# EAGLE library part CONN_1X06 (library GPLIB_CONN)
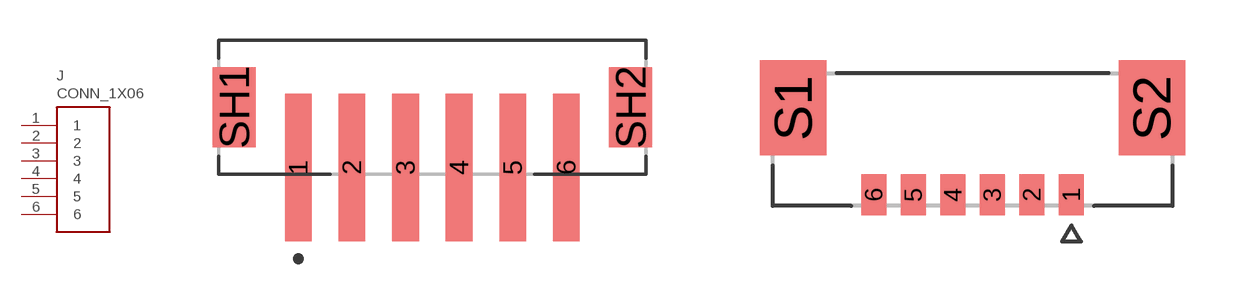
[diagram p28: symbol with the pads of CONN_1X06_2.0MM_SM_ST_JST_B6B-PH-SM4-TB; footprints CONN_1X06_2.0MM_SM_ST_JST_B6B-PH-SM4-TB, CONN_1X06_1.25MM_ST_SM_MX_533980671]

Designator prefix J

## CONN_1X06_2.0MM_SM_ST_JST_B6B-PH-SM4-TB  [CONN_1X06_2.0MM_SM_ST_JST_B6B-PH-SM4-TB]
1  1  pas
2  2  pas
3  3  pas
4  4  pas
5  5  pas
6  6  pas

## CONN_1X06_1.25MM_ST_SM_MX_533980671  [CONN_1X06_1.25MM_ST_SM_MX_533980671]
Pads as for CONN_1X06_2.0MM_SM_ST_JST_B6B-PH-SM4-TB

## CONN_1X06_2.5MM_SM_RA_JST_S6B-XH-SM4-TB  [CONN_S6B-XH-SM4-TB_JST]
Pads as for CONN_1X06_2.0MM_SM_ST_JST_B6B-PH-SM4-TB

## Footprint CONN_1X06_2.0MM_SM_ST_JST_B6B-PH-SM4-TB (pad centres in mm)
smd 1 x 5.5: 1 -5,-2.25; 2 -3,-2.25; 3 -1,-2.25; 4 1,-2.25; 5 3,-2.25; 6 5,-2.25
smd 1.6 x 3: SH1 -7.4,0; SH2 7.4,0

## Footprint CONN_1X06_1.25MM_ST_SM_MX_533980671 (pad centres in mm)
smd 0.8 x 1.3: 1 3.125,-1.75; 2 1.875,-1.75; 3 0.625,-1.75; 4 -0.625,-1.75; 5 -1.875,-1.75; 6 -3.125,-1.75
smd 2.1 x 3: S1 -5.675,1; S2 5.675,1

## Footprint CONN_S6B-XH-SM4-TB_JST (pad centres in mm)
smd 1.295 x 4.496: 1 -6.25,3.554; 2 -3.75,3.554; 3 -1.25,3.554; 4 1.25,3.554; 5 3.75,3.554; 6 6.25,3.554
smd 1.803 x 3.912: 7 -9.45,-3.246; 8 9.45,-3.246